# Altium footprint library M_CLIP_C_10x8x3.5.PcbLib: 1 footprints
Each footprint in its own frame and in the unit in brackets; x right, y up, seen from the top. Pads: shape width x height; smd on the part's side, far side on the other; paste and mask are expansions set on the pad; w line width, h text height; cw(c..) or ccw(c..) is an arc to the next point about the centre after c.
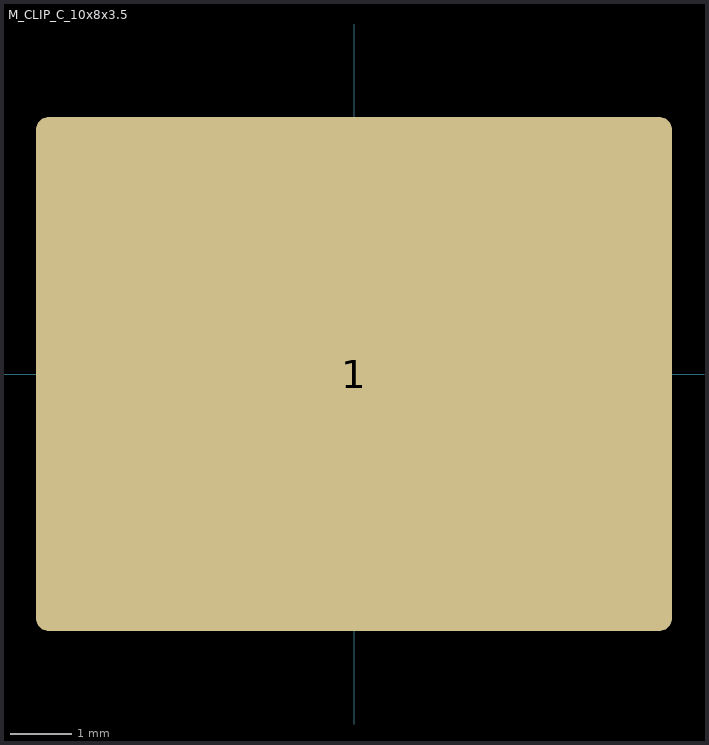
[diagram p0: the footprint, top view; thin cyan lines are the x and y axes]

## M_CLIP_C_10x8x3.5 [mm]
height 0.09
pads (1):
  rrect5% 10.4x8.4 smd paste-1: 1(0,0)
3D body "s8131-46r.stp": height 3.35, standoff -0.2, extent -5,-4.036 5,4.064